# EAGLE library part CD4066BCN (library Fairchild_By_element14_Batch_1)
Quad Bilateral Switch
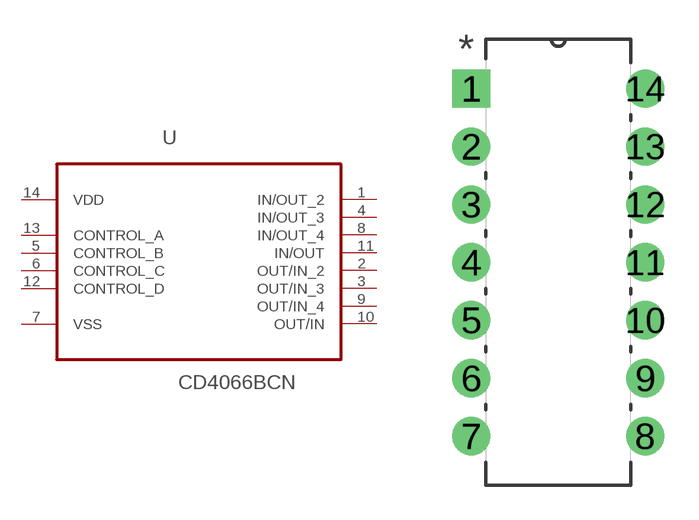
[diagram p168: symbol with the pads of DIP254P762X508-14; footprint DIP254P762X508-14]

Designator prefix U

## CD4066BCN (MPN: CD4066BCN; OC_FARNELL: 1014045; OC_NEWARK: 18C6093; PACKAGE: PDIP-14; SUPPLIER: Fairchild)  [DIP254P762X508-14]
1  IN/OUT_2
2  OUT/IN_2
3  OUT/IN_3
4  IN/OUT_3
5  CONTROL_B  in
6  CONTROL_C  in
7  VSS  pwr
8  IN/OUT_4
9  OUT/IN_4
10  OUT/IN
11  IN/OUT
12  CONTROL_D  in
13  CONTROL_A  in
14  VDD  pwr

## Footprint DIP254P762X508-14 (pad centres in mm)
drill 1.118 square: 1 -7.62,15.24
drill 1.118: 2 -7.62,12.7; 3 -7.62,10.16; 4 -7.62,7.62; 5 -7.62,5.08; 6 -7.62,2.54; 7 -7.62,0; 8 0,0; 9 0,2.54; 10 0,5.08; 11 0,7.62; 12 0,10.16; 13 0,12.7; 14 0,15.24